# Altium footprint library Diode Footprints.PcbLib: 32 footprints (part 2 of 2)
Each footprint in its own frame and in the unit in brackets; x right, y up, seen from the top. Pads: shape width x height; smd on the part's side, far side on the other; paste and mask are expansions set on the pad; w line width, h text height; cw(c..) or ccw(c..) is an arc to the next point about the centre after c.
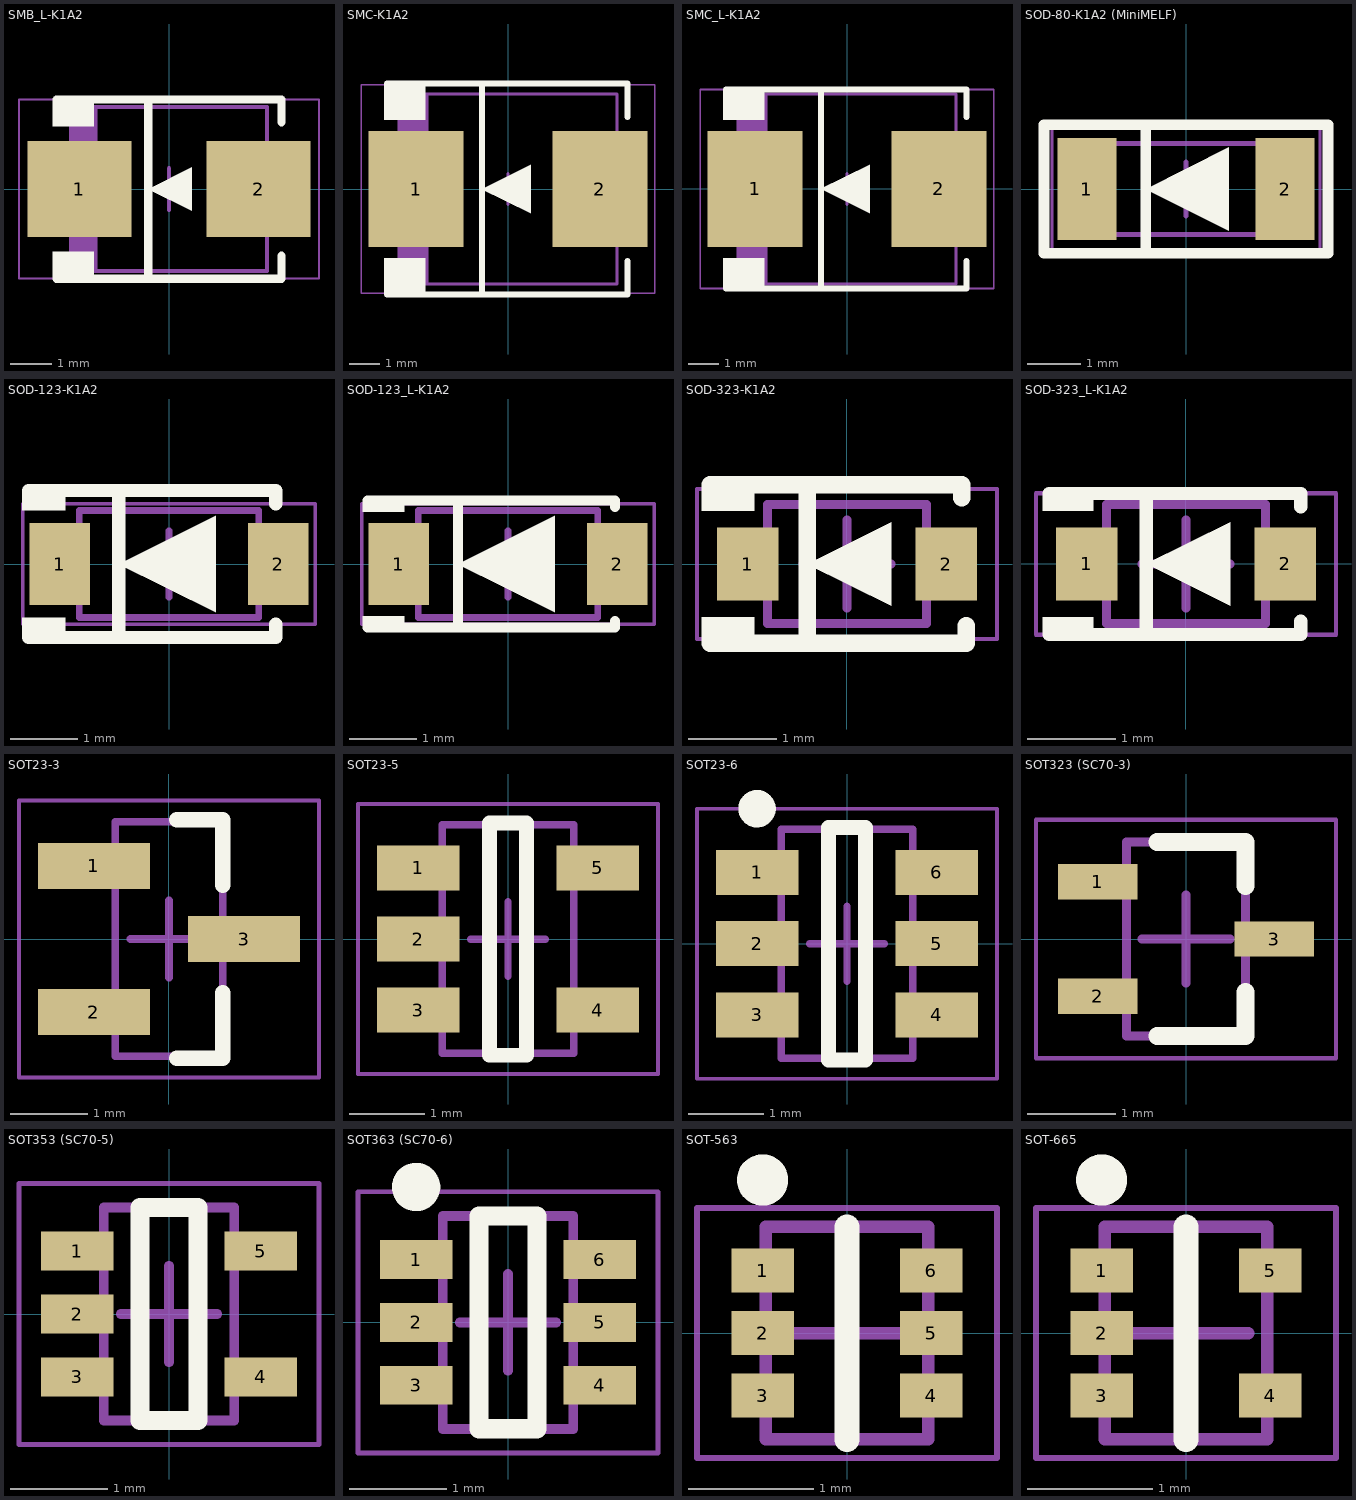
[diagram p1: the footprints below, top view; thin cyan lines are the x and y axes]

## SMB_L-K1A2 [mm] "Molded Diode, 2-Leads, Body 4.35x3.62mm, IPC High Density"
height 2.5
pads (2):
  rect 2.5x2.3 smd: 1(-2.15,0) 2(2.15,0)
Top Overlay:
  region: -1.8,-1.5 -2.8,-1.5 -2.8,-2.15 -1.8,-2.15
  region: -1.8,2.15 -2.8,2.15 -2.8,1.5 -1.8,1.5
  region: -0.5,0 0.55,0.525 0.55,-0.525
  lines w0.2: -2.7,-2.15 2.7,-2.15 2.7,-1.6 ; -2.7,2.15 2.7,2.15 2.7,1.6 ; -0.5,-2.15 -0.5,2.15
Mechanical 13:
  region: -1.718,1.97 -2.35,1.97 -2.35,-1.97 -1.718,-1.97
  lines w0.1: -2.35,-1.97 -2.35,1.97 2.35,1.97 2.35,-1.97 -2.35,-1.97
Mechanical 15:
  lines w0.05: -3.6,-2.15 -3.6,2.15 3.6,2.15 3.6,-2.15 -3.6,-2.15
  lines w0.1: -0.5,0 0.5,0 ; 0,-0.5 0,0.5
3D body: height 2.5, standoff 0, extent -2.35,-1.97 2.35,1.97
3D body: height 2.6, standoff 2.5, extent -2.35,-1.97 -1.7,1.97

## SMC-K1A2 [mm] "Molded Diode, 2-Leads, Body 6.85x5.90mm, IPC Medium Density"
height 2.62
pads (2):
  rect 3.1x3.8 smd: 1(-3,0) 2(3,0)
Top Overlay:
  region: -2.7,3.45 -4.05,3.45 -4.05,2.25 -2.7,2.25
  region: -2.7,-2.25 -4.05,-2.25 -4.05,-3.45 -2.7,-3.45
  region: -0.85,0 0.75,0.8 0.75,-0.8
  lines w0.2: -3.95,-3.45 3.9,-3.45 3.9,-2.35 ; -3.95,3.45 3.9,3.45 3.9,2.35 ; -0.85,-3.45 -0.85,3.45
Mechanical 13:
  region: -2.599,3.11 -3.555,3.11 -3.555,-3.11 -2.599,-3.11
  lines w0.1: -3.555,-3.11 3.555,-3.11 3.555,3.11 -3.555,3.11 -3.555,-3.11
Mechanical 15:
  lines w0.05: -4.8,-3.4 4.8,-3.4 4.8,3.4 -4.8,3.4 -4.8,-3.4
  lines w0.1: -0.5,0 0.5,0 ; 0,-0.5 0,0.5
3D body: height 2.7, standoff 2.6, extent -3.538,-3.11 -2.562,3.11
3D body: height 2.62, standoff 0, extent -3.555,-3.11 3.555,3.11

## SMC_L-K1A2 [mm] "Molded Diode, 2-Leads, Body 6.85x5.90mm, IPC High Density"
height 2.62
pads (2):
  rect 3.1x3.8 smd: 1(-3,0) 2(3,0)
Top Overlay:
  region: -2.7,3.25 -4.05,3.25 -4.05,2.25 -2.7,2.25
  region: -2.7,-2.25 -4.05,-2.25 -4.05,-3.25 -2.7,-3.25
  region: -0.85,0 0.75,0.8 0.75,-0.8
  lines w0.2: -3.95,-3.25 3.9,-3.25 3.9,-2.35 ; -3.95,3.25 3.9,3.25 3.9,2.35 ; -0.85,-3.25 -0.85,3.25
Mechanical 13:
  region: -2.599,3.11 -3.555,3.11 -3.555,-3.11 -2.599,-3.11
  lines w0.1: -3.555,-3.11 -3.555,3.11 3.555,3.11 3.555,-3.11 -3.555,-3.11
Mechanical 15:
  lines w0.05: -4.8,-3.25 -4.8,3.25 4.8,3.25 4.8,-3.25 -4.8,-3.25
  lines w0.1: -0.5,0 0.5,0 ; 0,-0.5 0,0.5
3D body: height 2.62, standoff 0, extent -3.555,-3.11 3.555,3.11
3D body: height 2.7, standoff 2.6, extent -3.538,-3.11 -2.562,3.11

## SOD-80-K1A2 (MiniMELF) [mm] "MELF Diode, 2-Leads, Body 3.50x1.50mm, IPC Medium Density"
height 1.7
pads (2):
  rect 1.1x1.9 smd: 1(-1.85,0) 2(1.85,0)
Top Overlay:
  region: -0.75,0 0.8,0.775 0.8,-0.775
  lines w0.2: -0.75,-1.2 -0.75,1.2 ; -2.65,-1.2 -2.65,1.2 2.65,1.2 2.65,-1.2 -2.65,-1.2
Mechanical 13:
  lines w0.1: -1.85,-0.85 1.85,-0.85 1.85,0.85 -1.85,0.85 -1.85,-0.85
Mechanical 15:
  lines w0.05: -2.5,-1.25 2.5,-1.25 2.5,1.25 -2.5,1.25 -2.5,-1.25
  lines w0.1: -0.5,0 0.5,0 ; 0,-0.5 0,0.5
3D body: height 1.7, standoff 0, extent 1.38,-0.85 1.85,0.85
3D body: height 1.69, standoff 0.04, extent -1.38,-0.82 1.38,0.82
3D body: height 1.69, standoff 0.04, extent -0.78,-0.821 -0.18,0.821
3D body: height 1.7, standoff 0, extent -1.85,-0.85 -1.38,0.85

## SOD-123-K1A2 [mm] "SOD, 2-Leads, Body 2.69x1.6mm"
height 1.35
pads (2):
  rect 0.91x1.22 smd: 1(-1.635,0) 2(1.635,0)
Top Overlay:
  region: -1.55,-0.8 -2.2,-0.8 -2.2,-1 -1.55,-1
  region: -1.55,1 -2.2,1 -2.2,0.8 -1.55,0.8
  region: -0.75,0 0.7,0.725 0.7,-0.725
  lines w0.2: -2.1,-1 -2.1,-1.1 1.6,-1.1 1.6,-0.9 ; -2.1,1 -2.1,1.1 1.6,1.1 1.6,0.9 ; -0.75,-1.1 -0.75,1.1
Mechanical 13:
  lines w0.1: -1.345,-0.8 -1.345,0.8 1.345,0.8 1.345,-0.8 -1.345,-0.8
Mechanical 15:
  lines w0.05: -2.19,-0.9 -2.19,0.9 2.19,0.9 2.19,-0.9 -2.19,-0.9
  lines w0.1: -0.5,0 0.5,0 ; 0,-0.5 0,0.5
3D body: height 1.35, standoff 0, extent -1.345,-0.8 1.345,0.8
3D body: height 1.36, standoff 1.35, extent -1.35,-0.8 -1.028,0.8

## SOD-123_L-K1A2 [mm] "SOD, 2-Leads, Body 2.69x1.6mm, High Density"
height 1.35
pads (2):
  rect 0.91x1.22 smd: 1(-1.635,0) 2(1.635,0)
Top Overlay:
  region: -1.55,0.951 -2.175,0.951 -2.175,0.775 -1.55,0.775
  region: -1.55,-0.775 -2.175,-0.775 -2.175,-0.951 -1.55,-0.951
  region: -0.75,0 0.7,0.725 0.7,-0.725
  lines w0.15: -2.1,-0.85 -2.1,-0.95 1.6,-0.95 1.6,-0.85 ; -2.1,0.85 -2.1,0.95 1.6,0.95 1.6,0.85 ; -0.75,-0.95 -0.75,0.95
Mechanical 13:
  lines w0.1: -1.345,-0.8 -1.345,0.8 1.345,0.8 1.345,-0.8 -1.345,-0.8
Mechanical 15:
  lines w0.05: -2.19,-0.9 -2.19,0.9 2.19,0.9 2.19,-0.9 -2.19,-0.9
  lines w0.1: -0.5,0 0.5,0 ; 0,-0.5 0,0.5
3D body: height 1.35, standoff 0, extent -1.345,-0.8 1.345,0.8
3D body: height 1.36, standoff 1.35, extent -1.35,-0.8 -1.028,0.8

## SOD-323-K1A2 [mm] "SODFL, 2-Leads, Body 1.25x2.50mm, IPC Medium Density"
height 1
pads (2):
  rect 0.7x0.83 smd: 1(-1.125,0) 2(1.125,0)
Top Overlay:
  region: -1.05,0.8 -1.65,0.8 -1.65,0.6 -1.05,0.6
  region: -1.05,-0.6 -1.65,-0.6 -1.65,-0.8 -1.05,-0.8
  region: -0.45,0 0.5,0.475 0.5,-0.475
  lines w0.2: -1.55,-0.8 -1.55,-0.9 1.35,-0.9 1.35,-0.7 ; -1.55,0.8 -1.55,0.9 1.3,0.9 1.3,0.75 ; -0.45,-0.9 -0.45,0.9
Mechanical 13:
  lines w0.1: -0.9,-0.675 -0.9,0.675 0.9,0.675 0.9,-0.675 -0.9,-0.675
Mechanical 15:
  lines w0.05: -1.7,-0.85 -1.7,0.85 1.7,0.85 1.7,-0.85 -1.7,-0.85
  lines w0.1: -0.5,0 0.5,0 ; 0,-0.5 0,0.5
3D body: height 1, standoff 0, extent -0.9,-0.675 0.9,0.675
3D body: height 1.01, standoff 1, extent -0.911,-0.675 -0.589,0.675

## SOD-323_L-K1A2 [mm] "SODFL, 2-Leads, Body 1.25x2.50mm, IPC High Density"
height 1
pads (2):
  rect 0.7x0.83 smd: 1(-1.125,0) 2(1.125,0)
Top Overlay:
  region: -1.05,-0.6 -1.624,-0.6 -1.624,-0.8 -1.05,-0.8
  region: -1.05,0.8 -1.624,0.8 -1.624,0.6 -1.05,0.6
  region: -0.45,0 0.5,0.475 0.5,-0.475
  lines w0.15: -1.55,-0.7 -1.55,-0.8 1.3,-0.8 1.3,-0.65 ; -1.55,0.7 -1.55,0.8 1.3,0.8 1.3,0.65 ; -0.45,-0.8 -0.45,0.8
Mechanical 13:
  lines w0.1: -0.9,-0.675 -0.9,0.675 0.9,0.675 0.9,-0.675 -0.9,-0.675
Mechanical 15:
  lines w0.05: -1.7,-0.8 -1.7,0.8 1.7,0.8 1.7,-0.8 -1.7,-0.8
  lines w0.1: -0.5,0 0.5,0 ; 0,-0.5 0,0.5
3D body: height 1, standoff 0, extent -0.9,-0.675 0.9,0.675
3D body: height 1.01, standoff 1, extent -0.911,-0.675 -0.589,0.675

## SOT23-3 [mm] "SOT23, 3-Leads, Body 2.90x2.35mm, Pitch 0.95mm, IPC Medium Density"
height 1.1
pads (3):
  rect 1.45x0.6 smd: 1(-0.975,0.95) 2(-0.975,-0.95) 3(0.975,0)
Top Overlay:
  lines w0.2: 0.1,-1.55 0.7,-1.55 0.7,-0.7 ; 0.1,1.55 0.7,1.55 0.7,0.7
Mechanical 13:
  lines w0.1: -0.7,-1.525 -0.7,1.525 0.7,1.525 0.7,-1.525 -0.7,-1.525
Mechanical 15:
  lines w0.05: -1.95,-1.8 -1.95,1.8 1.95,1.8 1.95,-1.8 -1.95,-1.8
  lines w0.1: -0.5,0 0.5,0 ; 0,-0.5 0,0.5
3D body "SOT23-3.step": height 1.3, standoff 0, extent -1.4,-1.45 1.4,1.45

## SOT23-5 [mm] "SOT23, 5-Leads, Body 2.90x2.80mm, Pitch 0.95mm, IPC Medium Density"
height 1.45
pads (5):
  rect 1.1x0.6 smd: 1(-1.2,0.95) 2(-1.2,0) 3(-1.2,-0.95) 4(1.2,-0.95) 5(1.2,0.95)
Top Overlay:
  lines w0.2: -0.25,-1.55 0.25,-1.55 0.25,1.55 -0.25,1.55 -0.25,-1.55
Mechanical 13:
  lines w0.1: -0.875,-1.525 -0.875,1.525 0.875,1.525 0.875,-1.525 -0.875,-1.525
Mechanical 15:
  lines w0.05: -2,-1.8 -2,1.8 2,1.8 2,-1.8 -2,-1.8
  lines w0.1: -0.5,0 0.5,0 ; 0,-0.5 0,0.5
3D body "SOT23-5.step": height 1.45, standoff 0, extent -1.4,-1.45 1.4,1.45

## SOT23-6 [mm] "SOT23, 6-Leads, Body 2.90x2.80mm, Pitch 0.95mm, IPC Medium Density"
height 1.45
pads (6):
  rect 1.1x0.6 smd: 1(-1.2,0.95) 2(-1.2,0) 3(-1.2,-0.95) 4(1.2,-0.95) 5(1.2,0) 6(1.2,0.95)
Top Overlay:
  circle w0.25: c-1.2,1.8 r0.125
  lines w0.2: -0.25,-1.55 0.25,-1.55 0.25,1.55 -0.25,1.55 -0.25,-1.55
Mechanical 13:
  lines w0.1: -0.875,-1.525 -0.875,1.525 0.875,1.525 0.875,-1.525 -0.875,-1.525
Mechanical 15:
  lines w0.05: -2,-1.8 -2,1.8 2,1.8 2,-1.8 -2,-1.8
  lines w0.1: -0.5,0 0.5,0 ; 0,-0.5 0,0.5
3D body "SOT23-6.step": height 1.45, standoff 0, extent -1.4,-1.45 1.4,1.45

## SOT323 (SC70-3) [mm] "SOT23, 3-Leads, Body 2.00x2.10mm, Pitch 0.65mm, IPC Medium Density"
height 1.1
pads (3):
  rect 0.9x0.4 smd: 1(-1,0.65) 2(-1,-0.65) 3(1,0)
Top Overlay:
  lines w0.2: -0.325,-1.1 0.675,-1.1 0.675,-0.6 ; -0.325,1.1 0.675,1.1 0.675,0.6
Mechanical 13:
  lines w0.1: -0.675,-1.1 0.675,-1.1 0.675,1.1 -0.675,1.1 -0.675,-1.1
Mechanical 15:
  lines w0.05: -1.7,-1.35 1.7,-1.35 1.7,1.35 -1.7,1.35 -1.7,-1.35
  lines w0.1: -0.5,0 0.5,0 ; 0,-0.5 0,0.5
3D body: height 1.1, standoff 0.1, extent -0.675,-1.1 0.675,1.1

## SOT353 (SC70-5) [mm] "SOT23, 5-Leads, Body 2.00x2.10mm, Pitch 0.65mm, IPC Medium Density"
height 1.1
pads (5):
  rect 0.75x0.4 smd: 1(-0.95,0.65) 2(-0.95,0) 3(-0.95,-0.65) 4(0.95,-0.65) 5(0.95,0.65)
Top Overlay:
  lines w0.2: -0.3,-1.1 0.3,-1.1 0.3,1.1 -0.3,1.1 -0.3,-1.1
Mechanical 13:
  lines w0.1: -0.675,-1.1 -0.675,1.1 0.675,1.1 0.675,-1.1 -0.675,-1.1
Mechanical 15:
  lines w0.05: -1.55,-1.35 -1.55,1.35 1.55,1.35 1.55,-1.35 -1.55,-1.35
  lines w0.1: -0.5,0 0.5,0 ; 0,-0.5 0,0.5
3D body: height 1.1, standoff 0.1, extent -0.675,-1.1 0.675,1.1

## SOT363 (SC70-6) [mm] "SOT23, 6-Leads, Body 2.00x2.10mm, Pitch 0.65mm, IPC Medium Density"
height 1.1
pads (6):
  rect 0.75x0.4 smd: 1(-0.95,0.65) 2(-0.95,0) 3(-0.95,-0.65) 4(0.95,-0.65) 5(0.95,0) 6(0.95,0.65)
Top Overlay:
  circle w0.25: c-0.95,1.4 r0.125
  lines w0.2: -0.3,-1.1 0.3,-1.1 0.3,1.1 -0.3,1.1 -0.3,-1.1
Mechanical 13:
  lines w0.1: -0.675,-1.1 -0.675,1.1 0.675,1.1 0.675,-1.1 -0.675,-1.1
Mechanical 15:
  lines w0.05: -1.55,-1.35 -1.55,1.35 1.55,1.35 1.55,-1.35 -1.55,-1.35
  lines w0.1: -0.5,0 0.5,0 ; 0,-0.5 0,0.5
3D body: height 1.1, standoff 0.1, extent -0.675,-1.1 0.675,1.1

## SOT-563 [mm] "SOTFL, 6-Leads, Body 1.60x1.60mm, Pitch 0.50mm, IPC Medium Density"
height 0.6
pads (6):
  rect 0.5x0.35 smd mask+0.07: 1(-0.675,0.5) 2(-0.675,0) 3(-0.675,-0.5) 4(0.675,-0.5) 5(0.675,0) 6(0.675,0.5)
Top Overlay:
  circle w0.25: c-0.675,1.225 r0.08
  lines w0.2: 0,-0.85 0,0.85
Mechanical 13:
  lines w0.1: -0.65,-0.85 0.65,-0.85 0.65,0.85 -0.65,0.85 -0.65,-0.85
Mechanical 15:
  lines w0.05: -1.2,-1 1.2,-1 1.2,1 -1.2,1 -1.2,-1
  lines w0.1: -0.5,0 0.5,0 ; 0,-0.5 0,0.5
3D body: height 0.6, standoff 0, extent -0.65,-0.85 0.65,0.85

## SOT-665 [mm] "SOTFL, 6-Leads, Body 1.60x1.60mm, Pitch 0.50mm, IPC Medium Density"
height 0.6
pads (5):
  rect 0.5x0.35 smd mask+0.07: 1(-0.675,0.5) 2(-0.675,0) 3(-0.675,-0.5) 4(0.675,-0.5) 5(0.675,0.5)
Top Overlay:
  circle w0.25: c-0.675,1.225 r0.08
  lines w0.2: 0,-0.85 0,0.85
Mechanical 13:
  lines w0.1: -0.65,-0.85 -0.65,0.85 0.65,0.85 0.65,-0.85 -0.65,-0.85
Mechanical 15:
  lines w0.05: -1.2,-1 -1.2,1 1.2,1 1.2,-1 -1.2,-1
  lines w0.1: -0.5,0 0.5,0 ; 0,-0.5 0,0.5
3D body: height 0.6, standoff 0, extent -0.65,-0.85 0.65,0.85